# EAGLE library part EE020-TYPE-2 (library pulse-eng)
POWER TRANSFORMER
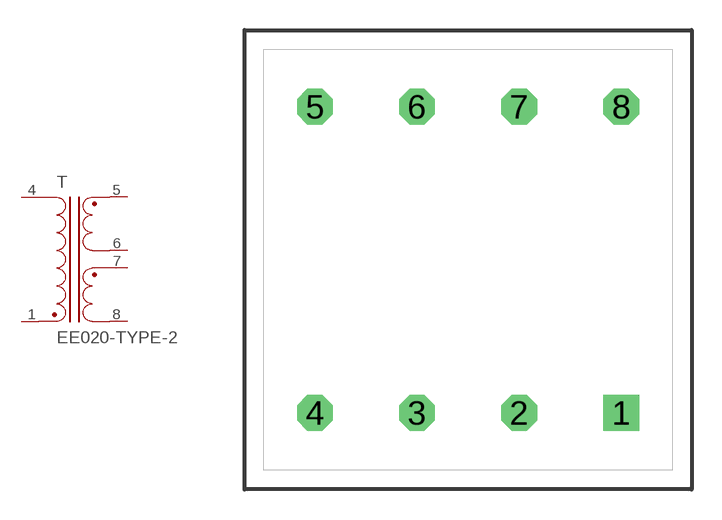
[diagram p2: symbol with the pads of EE020; footprint EE020]

Designator prefix T

## EE020-TYPE-2  [EE020]
1  1  pas
4  4  pas
5  5  pas
6  6  pas
7  7  pas
8  8  pas

## Footprint EE020 (pad centres in mm)
TYPE EE20 LAMINATED TRANSFORMER
drill 0.711 pad 1.778 square: 1 7.62,-7.62
drill 0.711 pad 1.778 octagon: 2 2.54,-7.62; 3 -2.54,-7.62; 4 -7.62,-7.62; 5 -7.62,7.62; 6 -2.54,7.62; 7 2.54,7.62; 8 7.62,7.62